# Altium schematic symbol library shunt_adj_0.Schlib: 1 symbol
Pins are listed as number, name and electrical type; pins without a type are passive.

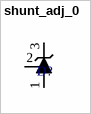
[diagram p0: symbol shunt_adj_0]

## shunt_adj_0
designator D?  (value not drawn)
Shunt Regulator
pins: 1, 2 3, 3